# Altium schematic symbol library IMU IC Breakouts 2020.SchLib: 2 symbols
Pins are listed as number, name and electrical type; pins without a type are passive.

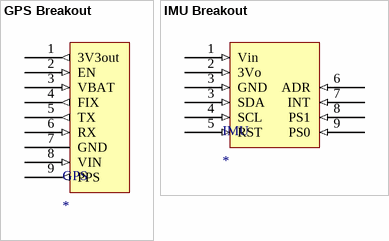
[diagram p0: symbols GPS Breakout to IMU Breakout]

## GPS Breakout
designator GPS
MTK3339
footprint MTK3339 Breakout
pins: 1 3V3out (out), 2 EN (in), 3 VBAT (in), 4 FIX (out), 5 TX (out), 6 RX (in), 7 GND (power), 8 VIN (in), 9 PPS (out)

## IMU Breakout
designator IMU
BNO055
footprint BNO055 Breakout
pins: 1 Vin (in), 2 3Vo (in), 3 GND (in), 3 SDA (in), 4 SCL (in), 5 RST (in), 6 ADR (in), 7 INT (in), 8 PS1 (in), 9 PS0 (in)